# EAGLE library part PCB_CONNECTOR_64_PIN (library Pressure_Pad)
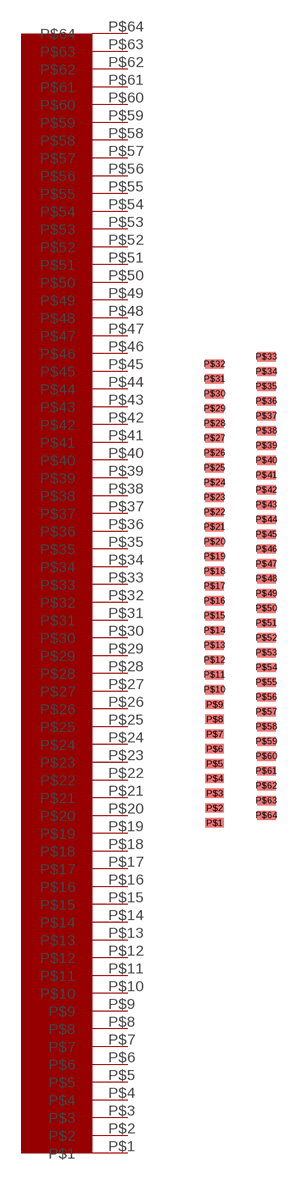
[diagram p2: symbol with the pads of FLEX_CONNECTOR_64_PIN; footprint FLEX_CONNECTOR_64_PIN]

Designator prefix -

## PCB_CONNECTOR_64_PIN  [FLEX_CONNECTOR_64_PIN]
P$1  P$1
P$2  P$2
P$3  P$3
P$4  P$4
P$5  P$5
P$6  P$6
P$7  P$7
P$8  P$8
P$9  P$9
P$10  P$10
P$11  P$11
P$12  P$12
P$13  P$13
P$14  P$14
P$15  P$15
P$16  P$16
P$17  P$17
P$18  P$18
P$19  P$19
P$20  P$20
P$21  P$21
P$22  P$22
P$23  P$23
P$24  P$24
P$25  P$25
P$26  P$26
P$27  P$27
P$28  P$28
P$29  P$29
P$30  P$30
P$31  P$31
P$32  P$32
P$33  P$33
P$34  P$34
P$35  P$35
P$36  P$36
P$37  P$37
P$38  P$38
P$39  P$39
P$40  P$40
P$41  P$41
P$42  P$42
P$43  P$43
P$44  P$44
P$45  P$45
P$46  P$46
P$47  P$47
P$48  P$48
P$49  P$49
P$50  P$50
P$51  P$51
P$52  P$52
P$53  P$53
P$54  P$54
P$55  P$55
P$56  P$56
P$57  P$57
P$58  P$58
P$59  P$59
P$60  P$60
P$61  P$61
P$62  P$62
P$63  P$63
P$64  P$64

## Footprint FLEX_CONNECTOR_64_PIN (pad centres in mm)
smd 1.27 x 0.635: P$1 16,-27.5; P$2 16,-26.5; P$3 16,-25.5; P$4 16,-24.5; P$5 16,-23.5; P$6 16,-22.5; P$7 16,-21.5; P$8 16,-20.5; P$9 16,-19.5; P$10 16,-18.5; P$11 16,-17.5; P$12 16,-16.5; P$13 16,-15.5; P$14 16,-14.5; P$15 16,-13.5; P$16 16,-12.5; P$17 16,-11.5; P$18 16,-10.5; P$19 16,-9.5; P$20 16,-8.5; P$21 16,-7.5; P$22 16,-6.5; P$23 16,-5.5; P$24 16,-4.5; P$25 16,-3.5; P$26 16,-2.5; P$27 16,-1.5; P$28 16,-0.5; P$29 16,0.5; P$30 16,1.5; P$31 16,2.5; P$32 16,3.5; P$33 19.5,4; P$34 19.5,3; P$35 19.5,2; P$36 19.5,1; P$37 19.5,0; P$38 19.5,-1; P$39 19.5,-2; P$40 19.5,-3; P$41 19.5,-4; P$42 19.5,-5; P$43 19.5,-6; P$44 19.5,-7; P$45 19.5,-8; P$46 19.5,-9; P$47 19.5,-10; P$48 19.5,-11; P$49 19.5,-12; P$50 19.5,-13; P$51 19.5,-14; P$52 19.5,-15; P$53 19.5,-16; P$54 19.5,-17; P$55 19.5,-18; P$56 19.5,-19; P$57 19.5,-20; P$58 19.5,-21; P$59 19.5,-22; P$60 19.5,-23; P$61 19.5,-24; P$62 19.5,-25; P$63 19.5,-26; P$64 19.5,-27